# Altium footprint library RTL8812AU.PcbLib: 2 footprints
Each footprint in its own frame and in the unit in brackets; x right, y up, seen from the top. Pads: shape width x height; smd on the part's side, far side on the other; paste and mask are expansions set on the pad; w line width, h text height; cw(c..) or ccw(c..) is an arc to the next point about the centre after c.
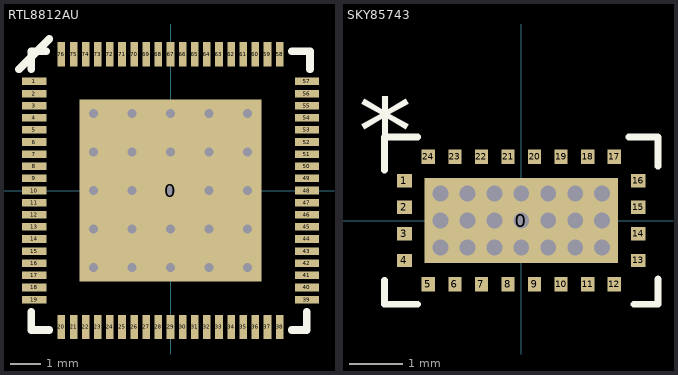
[diagram p0: the footprints below, top view; thin cyan lines are the x and y axes]

## RTL8812AU [mm]
pads (77):
  rect 6x6 smd: 0(0,0)
  rect 0.8x0.25 smd: 1(-4.5,3.6) 2(-4.5,3.2) 3(-4.5,2.8) 4(-4.5,2.4) 5(-4.5,2) 6(-4.5,1.6) 7(-4.5,1.2) 8(-4.5,0.8) 9(-4.5,0.4) 10(-4.5,0) 11(-4.5,-0.4) 12(-4.5,-0.8) 13(-4.5,-1.2) 14(-4.5,-1.6) 15(-4.5,-2) 16(-4.5,-2.4) 17(-4.5,-2.8) 18(-4.5,-3.2) 19(-4.5,-3.6) 39(4.5,-3.6) 40(4.5,-3.2) 41(4.5,-2.8) 42(4.5,-2.4) 43(4.5,-2) 44(4.5,-1.6) 45(4.5,-1.2) 46(4.5,-0.8) 47(4.5,-0.4) 48(4.5,0) 49(4.5,0.4) 50(4.5,0.8) 51(4.5,1.2) 52(4.5,1.6) 53(4.5,2) 54(4.5,2.4) 55(4.5,2.8) 56(4.5,3.2) 57(4.5,3.6)
  rect 0.25x0.8 smd: 20(-3.6,-4.5) 21(-3.2,-4.5) 22(-2.8,-4.5) 23(-2.4,-4.5) 24(-2,-4.5) 25(-1.6,-4.5) 26(-1.2,-4.5) 27(-0.8,-4.5) 28(-0.4,-4.5) 29(0,-4.5) 30(0.4,-4.5) 31(0.8,-4.5) 32(1.2,-4.5) 33(1.6,-4.5) 34(2,-4.5) 35(2.4,-4.5) 36(2.8,-4.5) 37(3.2,-4.5) 38(3.6,-4.5) 58(3.6,4.5) 59(3.2,4.5) 60(2.8,4.5) 61(2.4,4.5) 62(2,4.5) 63(1.6,4.5) 64(1.2,4.5) 65(0.8,4.5) 66(0.4,4.5) 67(0,4.5) 68(-0.4,4.5) 69(-0.8,4.5) 70(-1.2,4.5) 71(-1.6,4.5) 72(-2,4.5) 73(-2.4,4.5) 74(-2.8,4.5) 75(-3.2,4.5) 76(-3.6,4.5)
via 0,0 diameter 0.508 hole 0.305
via 0,1.27 diameter 0.508 hole 0.305
via 0,2.54 diameter 0.508 hole 0.305
via 1.27,2.54 diameter 0.508 hole 0.305
via 1.27,1.27 diameter 0.508 hole 0.305
via 2.54,2.54 diameter 0.508 hole 0.305
via 2.54,1.27 diameter 0.508 hole 0.305
via 2.54,0 diameter 0.508 hole 0.305
via 1.27,0 diameter 0.508 hole 0.305
via 1.27,-1.27 diameter 0.508 hole 0.305
via 2.54,-1.27 diameter 0.508 hole 0.305
via 2.54,-2.54 diameter 0.508 hole 0.305
via 1.27,-2.54 diameter 0.508 hole 0.305
via 0,-2.54 diameter 0.508 hole 0.305
via 0,-1.27 diameter 0.508 hole 0.305
via -1.27,-1.27 diameter 0.508 hole 0.305
via -1.27,-2.54 diameter 0.508 hole 0.305
via -1.27,0 diameter 0.508 hole 0.305
via -1.27,1.27 diameter 0.508 hole 0.305
via -1.27,2.54 diameter 0.508 hole 0.305
via -2.54,2.54 diameter 0.508 hole 0.305
via -2.54,1.27 diameter 0.508 hole 0.305
via -2.54,0 diameter 0.508 hole 0.305
via -2.54,-1.27 diameter 0.508 hole 0.305
via -2.54,-2.54 diameter 0.508 hole 0.305
Top Overlay:
  lines w0.254: -5,4 -4,5 ; -4.6,-4 -4.6,-4.6 -4,-4.6 ; -4.6,4 -4.6,4.6 -4.1,4.6 ; 4,-4.6 4.5,-4.6 4.5,-4 ; 4,4.6 4.6,4.6 4.6,4
3D body: height 0.85, standoff 0, extent -4.5,-4.5 4.5,4.5

## SKY85743 [mm]
pads (25):
  rect 3.65x1.6 smd: 0(0,0)
  rect 0.275x0.25 smd: 1(-2.2,0.75) 2(-2.2,0.25) 3(-2.2,-0.25) 4(-2.2,-0.75) 13(2.2,-0.75) 14(2.2,-0.25) 15(2.2,0.25) 16(2.2,0.75)
  rect 0.25x0.275 smd: 5(-1.75,-1.2) 6(-1.25,-1.2) 7(-0.75,-1.2) 8(-0.25,-1.2) 9(0.25,-1.2) 10(0.75,-1.2) 11(1.25,-1.2) 12(1.75,-1.2) 17(1.75,1.2) 18(1.25,1.2) 19(0.75,1.2) 20(0.25,1.2) 21(-0.25,1.2) 22(-0.75,1.2) 23(-1.25,1.2) 24(-1.75,1.2)
via 1.524,0.508 diameter 0.45 hole 0.3
via 1.524,0 diameter 0.45 hole 0.3
via 1.524,-0.508 diameter 0.45 hole 0.3
via -1.524,-0.508 diameter 0.45 hole 0.3
via -1.524,0 diameter 0.45 hole 0.3
via -1.524,0.508 diameter 0.45 hole 0.3
via -1.016,0.508 diameter 0.45 hole 0.3
via -0.508,0.508 diameter 0.45 hole 0.3
via 0,0.508 diameter 0.45 hole 0.3
via 0.508,0.508 diameter 0.45 hole 0.3
via 1.016,0.508 diameter 0.45 hole 0.3
via 1.016,-0.508 diameter 0.45 hole 0.3
via 0.508,-0.508 diameter 0.45 hole 0.3
via 0,-0.508 diameter 0.45 hole 0.3
via -0.508,-0.508 diameter 0.45 hole 0.3
via -1.016,-0.508 diameter 0.45 hole 0.3
via 1.016,0 diameter 0.45 hole 0.3
via 0.508,0 diameter 0.45 hole 0.3
via -1.016,0 diameter 0.45 hole 0.3
via -0.508,0 diameter 0.45 hole 0.3
via 0,0 diameter 0.45 hole 0.3
Top Overlay:
  lines w0.127: -2.575,-1.125 -2.575,-1.575 -1.95,-1.575 ; -2.575,0.95 -2.575,1.575 -1.95,1.575 ; 2.025,1.575 2.575,1.575 2.575,1.025 ; 2.125,-1.575 2.575,-1.575 2.575,-1.1
  text "*" at -3.075,0.475 h2.54
3D body: height 1.2, standoff 0, extent -2.5,-1.5 2.5,1.5